# Altium footprint library SOP16.PcbLib: 1 footprints
Each footprint in its own frame and in the unit in brackets; x right, y up, seen from the top. Pads: shape width x height; smd on the part's side, far side on the other; paste and mask are expansions set on the pad; w line width, h text height; cw(c..) or ccw(c..) is an arc to the next point about the centre after c.
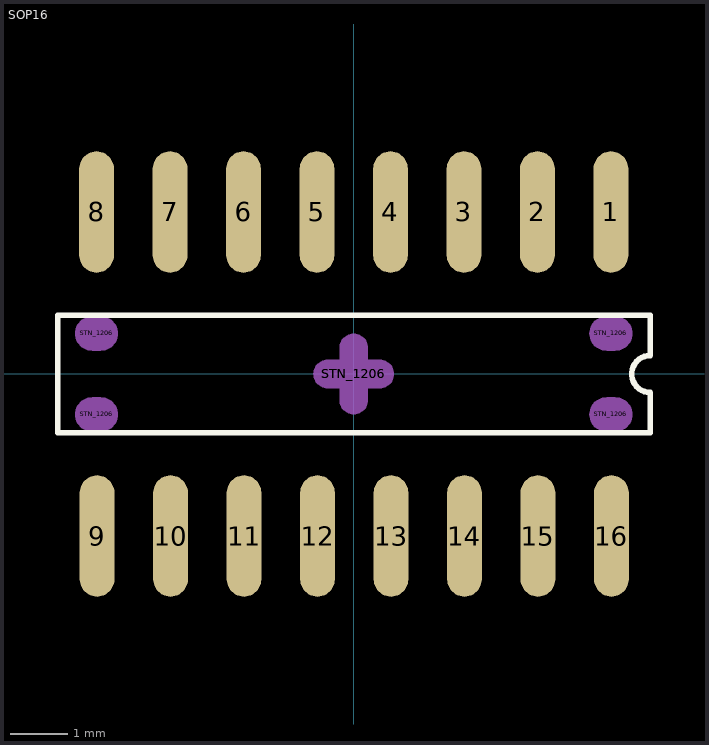
[diagram p0: the footprint, top view; thin cyan lines are the x and y axes]

## SOP16 [mm]
height 0.94
pads (22):
  oval 0.6x2.1 smd: 1(4.445,2.8) 2(3.175,2.8) 3(1.905,2.8) 4(0.635,2.8) 5(-0.635,2.8) 6(-1.905,2.8) 7(-3.175,2.8) 8(-4.445,2.8) 9(-4.436,-2.8) 10(-3.166,-2.8) 11(-1.896,-2.8) 12(-0.626,-2.8) 13(0.644,-2.8) 14(1.914,-2.8) 15(3.184,-2.8) 16(4.454,-2.8)
  oval 0.75x0.6 on Mech2 mask+0: STN_1206(-4.445,-0.7) STN_1206(-4.445,0.7) STN_1206(4.445,-0.7) STN_1206(4.445,0.7)
  oval 1.4x0.5 on Mech2 mask+0: STN_1206(0,0)
  oval 0.5x1.4 on Mech2 mask+0: STN_1206(0,0)
Top Overlay:
  lines w0.1: -5.115,-1.015 -5.115,1.015 5.124,1.015 5.124,0.32 ccw(c5.124,0) 5.124,-0.32 5.124,-1.015 -5.115,-1.015
3D body "User Library-SOP16.STEP": height 1.59, standoff 0, extent -4.951,-3.111 5.03,3.123